# Altium integrated library Res-SMD_V2.IntLib: 2369 symbols (part 18 of 18)
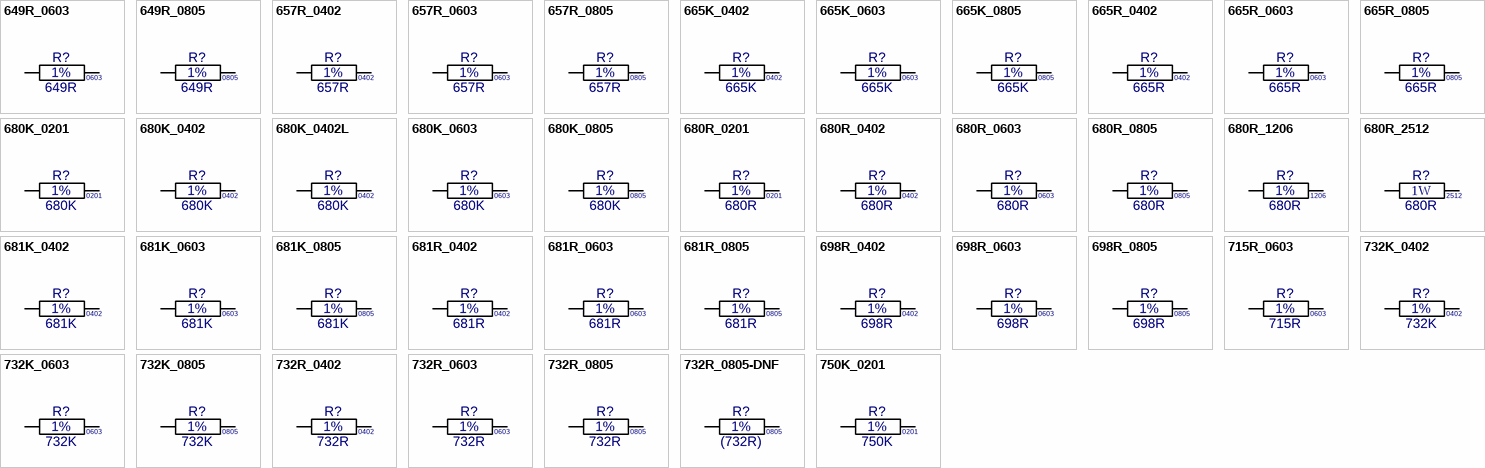
[diagram p76: symbols 649R_0603 to 750K_0201]

## 732K_0402
designator R?, comment value 732K  Tol: 1%  Text1: 0402  (hidden comment: 732K_R0402_1%)
Resistor Chip SMD; Manufacturer: Various; Part Number: 732K 0402 1%; Watt: 63mW; Package: RESC0402X40N; EDM-PN: *; Text2: *; Reutech PN: *; SAAB PN: *; DCE Part No: *
footprint RESC0402X40N (Chip Resistor, 0402, 2-Leads, Body 1.1x0.5mm, IPC Medium Density)
pins: 1, 2

## 732K_0603
designator R?, comment value 732K  Tol: 1%  Text1: 0603  (hidden comment: 732K_R0603_1%)
Resistor Chip SMD; Manufacturer: Various; Part Number: 732K 0603 1%; Watt: 100mW; EDM-PN: RES1041; Package: RESC0603X60N; Text2: *; Reutech PN: *; SAAB PN: *; DCE Part No: *
footprint RESC0603X60N (Chip Resistor, 0603, 2-Leads, Body 1.6x0.8mm, IPC Medium Density)
pins: 1, 2

## 732K_0805
designator R?, comment value 732K  Tol: 1%  Text1: 0805  (hidden comment: 732K_R0805_1%)
Resistor Chip SMD; Manufacturer: Various; Part Number: 732K 0805 1%; Watt: 125mW; Package: RESC0805X65N; EDM-PN: *; Text2: *; Reutech PN: *; SAAB PN: *; DCE Part No: *
footprint RESC0805X65N (Chip Resistor, 0805, 2-Leads, Body 2.0x1.3mm, IPC Medium Density)
pins: 1, 2

## 732R_0402
designator R?, comment value 732R  Tol: 1%  Text1: 0402  (hidden comment: 732R_R0402_1%)
Resistor Chip SMD; Manufacturer: Various; Part Number: 732R 0402 1%; Watt: 63mW; Package: RESC0402X40N; EDM-PN: *; Text2: *; Reutech PN: *; SAAB PN: *; DCE Part No: *
footprint RESC0402X40N (Chip Resistor, 0402, 2-Leads, Body 1.1x0.5mm, IPC Medium Density)
pins: 1, 2

## 732R_0603
designator R?, comment value 732R  Tol: 1%  Text1: 0603  (hidden comment: 732R_R0603_1%)
Resistor Chip SMD; Manufacturer: Various; Part Number: 732R 0603 1%; Watt: 100mW; Package: RESC0603X60N; EDM-PN: *; Text2: *; Reutech PN: *; SAAB PN: *; DCE Part No: *
footprint RESC0603X60N (Chip Resistor, 0603, 2-Leads, Body 1.6x0.8mm, IPC Medium Density)
pins: 1, 2

## 732R_0805
designator R?, comment value 732R  Tol: 1%  Text1: 0805  (hidden comment: 732R_R0805_1%)
Resistor Chip SMD; Manufacturer: Various; Part Number: 732R 0805 1%; Watt: 125mW; Package: RESC0805X65N; EDM-PN: *; Text2: *; Reutech PN: *; SAAB PN: *; DCE Part No: *
footprint RESC0805X65N (Chip Resistor, 0805, 2-Leads, Body 2.0x1.3mm, IPC Medium Density)
pins: 1, 2

## 732R_0805-DNF
designator R?, comment value (732R)  Tol: 1%  Text1: 0805  (hidden comment: 732R_R0805_1%-DNF)
Resistor Chip SMD - Do not Fit; Manufacturer: Various; Part Number: DNF - 732R 0805 1%; Watt: 125mW; Package: RESC0805X65N; EDM-PN: *; Text2: *; Reutech PN: *; SAAB PN: *; DCE Part No: *
footprint RESC0805X65N (Chip Resistor, 0805, 2-Leads, Body 2.0x1.3mm, IPC Medium Density)
pins: 1, 2

## 750K_0201
designator R?, comment value 750K  Tol: 1%  Text1: 0201  (hidden comment: 750K_R0201_1%)
Resistor Chip SMD; Manufacturer: Various; Part Number: 750K 0201 1%; Watt: 31mW; Package: RESC0201X33N; EDM-PN: *; Text2: *; Reutech PN: *; SAAB PN: *; DCE Part No: *
footprint RESC0201X33N (Chip Resistor, 0201, 2-Leads, Body 0.6x0.3mm, IPC Medium Density)
pins: 1, 2

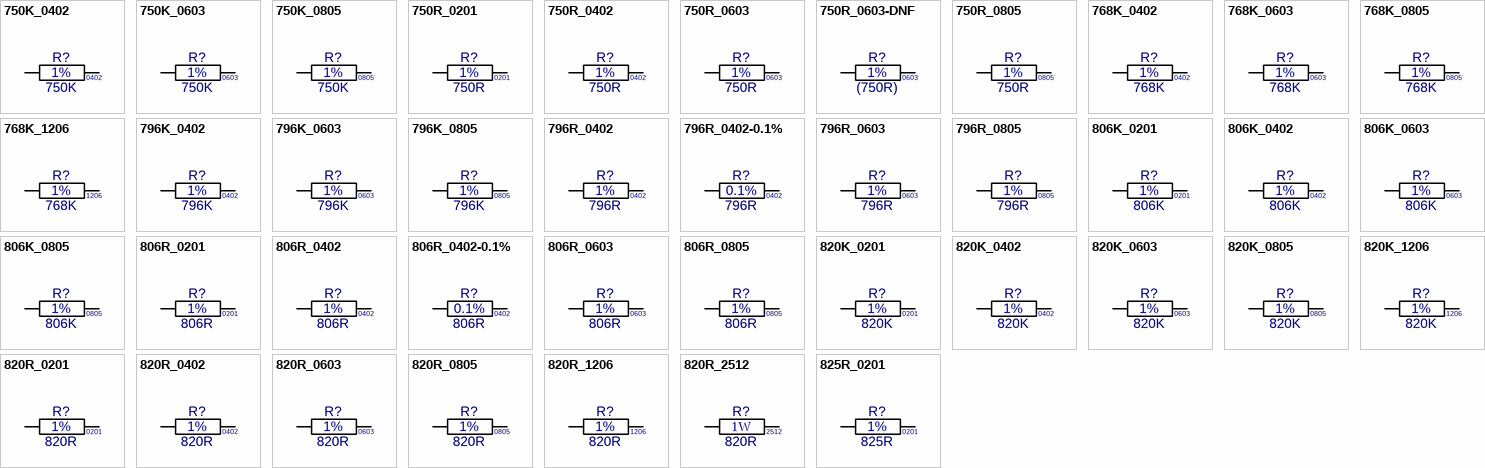
[diagram p57: symbols 750K_0402 to 825R_0201]

## 750K_0402
designator R?, comment value 750K  Tol: 1%  Text1: 0402  (hidden comment: 750K_R0402_1%)
Resistor Chip SMD; Manufacturer: Various; Part Number: 750K 0402 1%; Watt: 63mW; Package: RESC0402X40N; EDM-PN: *; Text2: *; Reutech PN: *; SAAB PN: *; DCE Part No: *
footprint RESC0402X40N (Chip Resistor, 0402, 2-Leads, Body 1.1x0.5mm, IPC Medium Density)
pins: 1, 2

## 750K_0603
designator R?, comment value 750K  Tol: 1%  Text1: 0603  (hidden comment: 750K_R0603_1%)
Resistor Chip SMD; Manufacturer: Various; Part Number: 750K 0603 1%; Watt: 100mW; EDM-PN: RES805; Package: RESC0603X60N; Text2: *; Reutech PN: *; SAAB PN: *; DCE Part No: *
footprint RESC0603X60N (Chip Resistor, 0603, 2-Leads, Body 1.6x0.8mm, IPC Medium Density)
pins: 1, 2

## 750K_0805
designator R?, comment value 750K  Tol: 1%  Text1: 0805  (hidden comment: 750K_R0805_1%)
Resistor Chip SMD; Manufacturer: Various; Part Number: 750K 0805 1%; Watt: 125mW; Package: RESC0805X65N; EDM-PN: *; Text2: *; Reutech PN: *; SAAB PN: *; DCE Part No: *
footprint RESC0805X65N (Chip Resistor, 0805, 2-Leads, Body 2.0x1.3mm, IPC Medium Density)
pins: 1, 2

## 750R_0201
designator R?, comment value 750R  Tol: 1%  Text1: 0201  (hidden comment: 750R_R0201_1%)
Resistor Chip SMD; Manufacturer: Various; Part Number: 750R 0201 1%; Watt: 31mW; Package: RESC0201X33N; EDM-PN: *; Text2: *; Reutech PN: *; SAAB PN: *; DCE Part No: *
footprint RESC0201X33N (Chip Resistor, 0201, 2-Leads, Body 0.6x0.3mm, IPC Medium Density)
pins: 1, 2

## 750R_0402
designator R?, comment value 750R  Tol: 1%  Text1: 0402  (hidden comment: 750R_R0402_1%)
Resistor Chip SMD; Manufacturer: Various; Part Number: 750R 0402 1%; Watt: 63mW; Package: RESC0402X40N; EDM-PN: *; Text2: *; Reutech PN: *; SAAB PN: *; DCE Part No: *
footprint RESC0402X40N (Chip Resistor, 0402, 2-Leads, Body 1.1x0.5mm, IPC Medium Density)
pins: 1, 2

## 750R_0603
designator R?, comment value 750R  Tol: 1%  Text1: 0603  (hidden comment: 750R_R0603_1%)
Resistor Chip SMD; Manufacturer: Various; Part Number: 750R 0603 1%; Watt: 100mW; Package: RESC0603X60N; EDM-PN: *; Text2: *; Reutech PN: 5905-93-7500; SAAB PN: *; DCE Part No: *
footprint RESC0603X60N (Chip Resistor, 0603, 2-Leads, Body 1.6x0.8mm, IPC Medium Density)
pins: 1, 2

## 750R_0603-DNF
designator R?, comment value (750R)  Tol: 1%  Text1: 0603  (hidden comment: 750R_R0603_1%-DNF)
Resistor Chip SMD - Do not Fit; Manufacturer: Various; Part Number: DNF - 750R 0603 1%; Watt: 100mW; Package: RESC0603X60N; EDM-PN: *; Text2: *; Reutech PN: 5905-93-7500; SAAB PN: *; DCE Part No: *
footprint RESC0603X60N (Chip Resistor, 0603, 2-Leads, Body 1.6x0.8mm, IPC Medium Density)
pins: 1, 2

## 750R_0805
designator R?, comment value 750R  Tol: 1%  Text1: 0805  (hidden comment: 750R_R0805_1%)
Resistor Chip SMD; Manufacturer: Various; Part Number: 750R 0805 1%; Watt: 125mW; EDM-PN: RES399; SAAB PN: 1ACF00456AEA; Package: RESC0805X65N; Text2: *; Reutech PN: *; DCE Part No: *
footprint RESC0805X65N (Chip Resistor, 0805, 2-Leads, Body 2.0x1.3mm, IPC Medium Density)
pins: 1, 2

## 768K_0402
designator R?, comment value 768K  Tol: 1%  Text1: 0402  (hidden comment: 768K_R0402_1%)
Resistor Chip SMD; Manufacturer: Various; Part Number: 768K 0402 1%; Watt: 63mW; Package: RESC0402X40N; EDM-PN: *; Text2: *; Reutech PN: *; SAAB PN: *; DCE Part No: *
footprint RESC0402X40N (Chip Resistor, 0402, 2-Leads, Body 1.1x0.5mm, IPC Medium Density)
pins: 1, 2

## 768K_0603
designator R?, comment value 768K  Tol: 1%  Text1: 0603  (hidden comment: 768K_R0603_1%)
Resistor Chip SMD; Manufacturer: Various; Part Number: 768K 0603 1%; Watt: 100mW; Package: RESC0603X60N; EDM-PN: *; Text2: *; Reutech PN: *; SAAB PN: *; DCE Part No: *
footprint RESC0603X60N (Chip Resistor, 0603, 2-Leads, Body 1.6x0.8mm, IPC Medium Density)
pins: 1, 2

## 768K_0805
designator R?, comment value 768K  Tol: 1%  Text1: 0805  (hidden comment: 768K_R0805_1%)
Resistor Chip SMD; Manufacturer: Various; Part Number: 768K 0805 1%; Watt: 125mW; Package: RESC0805X65N; EDM-PN: *; Text2: *; Reutech PN: *; SAAB PN: *; DCE Part No: *
footprint RESC0805X65N (Chip Resistor, 0805, 2-Leads, Body 2.0x1.3mm, IPC Medium Density)
pins: 1, 2

## 768K_1206
designator R?, comment value 768K  Tol: 1%  Text1: 1206  (hidden comment: 768K_R1206_1%)
Resistor Chip SMD; Manufacturer: Various; Part Number: 768K 1206 1%; Watt: 250mW; Package: RESC1206X71N; EDM-PN: *; Text2: *; Reutech PN: *; SAAB PN: *; DCE Part No: *
footprint RESC1206X71N (Chip Resistor, 1206, 2-Leads, Body 3.2x1.6mm, IPC Medium Density)
pins: 1, 2

## 796K_0402
designator R?, comment value 796K  Tol: 1%  Text1: 0402  (hidden comment: 796K_R0402_1%)
Resistor Chip SMD; Manufacturer: Various; Part Number: 796K 0402 1%; Watt: 63mW; Package: RESC0402X40N; EDM-PN: *; Text2: *; Reutech PN: *; SAAB PN: *; DCE Part No: *
footprint RESC0402X40N (Chip Resistor, 0402, 2-Leads, Body 1.1x0.5mm, IPC Medium Density)
pins: 1, 2

## 796K_0603
designator R?, comment value 796K  Tol: 1%  Text1: 0603  (hidden comment: 796K_R0603_1%)
Resistor Chip SMD; Manufacturer: Various; Part Number: 796K 0603 1%; Watt: 100mW; Package: RESC0603X60N; EDM-PN: *; Text2: *; Reutech PN: *; SAAB PN: *; DCE Part No: *
footprint RESC0603X60N (Chip Resistor, 0603, 2-Leads, Body 1.6x0.8mm, IPC Medium Density)
pins: 1, 2

## 796K_0805
designator R?, comment value 796K  Tol: 1%  Text1: 0805  (hidden comment: 796K_R0805_1%)
Resistor Chip SMD; Manufacturer: Various; Part Number: 796K 0805 1%; Watt: 125mW; Package: RESC0805X65N; EDM-PN: *; Text2: *; Reutech PN: *; SAAB PN: *; DCE Part No: *
footprint RESC0805X65N (Chip Resistor, 0805, 2-Leads, Body 2.0x1.3mm, IPC Medium Density)
pins: 1, 2

## 796R_0402
designator R?, comment value 796R  Tol: 1%  Text1: 0402  (hidden comment: 796R_R0402_1%)
Resistor Chip SMD; Manufacturer: Various; Part Number: 796R 0402 1%; Watt: 63mW; Package: RESC0402X40N; EDM-PN: *; Text2: *; Reutech PN: *; SAAB PN: *; DCE Part No: *
footprint RESC0402X40N (Chip Resistor, 0402, 2-Leads, Body 1.1x0.5mm, IPC Medium Density)
pins: 1, 2

## 796R_0402-0.1%
designator R?, comment value 796R  Tol: 0.1%  Text1: 0402  (hidden comment: 796R_R0402_0.1%)
Resistor Chip SMD; Manufacturer: Various; Part Number: 796R 0402 0.1%; Watt: 63mW; Package: RESC0402X40N; EDM-PN: *; Text2: *; Reutech PN: *; SAAB PN: *; DCE Part No: *
footprint RESC0402X40N (Chip Resistor, 0402, 2-Leads, Body 1.1x0.5mm, IPC Medium Density)
pins: 1, 2

## 796R_0603
designator R?, comment value 796R  Tol: 1%  Text1: 0603  (hidden comment: 796R_R0603_1%)
Resistor Chip SMD; Manufacturer: Various; Part Number: 796R 0603 1%; Watt: 100mW; Package: RESC0603X60N; EDM-PN: *; Text2: *; Reutech PN: *; SAAB PN: *; DCE Part No: *
footprint RESC0603X60N (Chip Resistor, 0603, 2-Leads, Body 1.6x0.8mm, IPC Medium Density)
pins: 1, 2

## 796R_0805
designator R?, comment value 796R  Tol: 1%  Text1: 0805  (hidden comment: 796R_R0805_1%)
Resistor Chip SMD; Manufacturer: Various; Part Number: 796R 0805 1%; Watt: 125mW; Package: RESC0805X65N; EDM-PN: *; Text2: *; Reutech PN: *; SAAB PN: *; DCE Part No: *
footprint RESC0805X65N (Chip Resistor, 0805, 2-Leads, Body 2.0x1.3mm, IPC Medium Density)
pins: 1, 2

## 806K_0201
designator R?, comment value 806K  Tol: 1%  Text1: 0201  (hidden comment: 806K_R0201_1%)
Resistor Chip SMD; Manufacturer: Various; Part Number: 806K 0201 1%; Watt: 31mW; Package: RESC0201X33N; EDM-PN: *; Text2: *; Reutech PN: *; SAAB PN: *; DCE Part No: *
footprint RESC0201X33N (Chip Resistor, 0201, 2-Leads, Body 0.6x0.3mm, IPC Medium Density)
pins: 1, 2

## 806K_0402
designator R?, comment value 806K  Tol: 1%  Text1: 0402  (hidden comment: 806K_R0402_1%)
Resistor Chip SMD; Manufacturer: Various; Part Number: 806K 0402 1%; Watt: 63mW; Package: RESC0402X40N; EDM-PN: *; Text2: *; Reutech PN: *; SAAB PN: *; DCE Part No: *
footprint RESC0402X40N (Chip Resistor, 0402, 2-Leads, Body 1.1x0.5mm, IPC Medium Density)
pins: 1, 2

## 806K_0603
designator R?, comment value 806K  Tol: 1%  Text1: 0603  (hidden comment: 806K_R0603_1%)
Resistor Chip SMD; Manufacturer: Various; Part Number: 806K 0603 1%; Watt: 100mW; Package: RESC0603X60N; EDM-PN: *; Text2: *; Reutech PN: *; SAAB PN: *; DCE Part No: *
footprint RESC0603X60N (Chip Resistor, 0603, 2-Leads, Body 1.6x0.8mm, IPC Medium Density)
pins: 1, 2

## 806K_0805
designator R?, comment value 806K  Tol: 1%  Text1: 0805  (hidden comment: 806K_R0805_1%)
Resistor Chip SMD; Manufacturer: Various; Part Number: 806K 0805 1%; Watt: 125mW; Package: RESC0805X65N; EDM-PN: *; Text2: *; Reutech PN: *; SAAB PN: *; DCE Part No: *
footprint RESC0805X65N (Chip Resistor, 0805, 2-Leads, Body 2.0x1.3mm, IPC Medium Density)
pins: 1, 2

## 806R_0201
designator R?, comment value 806R  Tol: 1%  Text1: 0201  (hidden comment: 806R_R0201_1%)
Resistor Chip SMD; Manufacturer: Various; Part Number: 806R 0201 1%; Watt: 31mW; Package: RESC0201X33N; EDM-PN: *; Text2: *; Reutech PN: *; SAAB PN: *; DCE Part No: *
footprint RESC0201X33N (Chip Resistor, 0201, 2-Leads, Body 0.6x0.3mm, IPC Medium Density)
pins: 1, 2

## 806R_0402
designator R?, comment value 806R  Tol: 1%  Text1: 0402  (hidden comment: 806R_R0402_1%)
Resistor Chip SMD; Manufacturer: Various; Part Number: 806R 0402 1%; Watt: 63mW; Package: RESC0402X40N; EDM-PN: *; Text2: *; Reutech PN: *; SAAB PN: *; DCE Part No: *
footprint RESC0402X40N (Chip Resistor, 0402, 2-Leads, Body 1.1x0.5mm, IPC Medium Density)
pins: 1, 2

## 806R_0402-0.1%
designator R?, comment value 806R  Tol: 0.1%  Text1: 0402  (hidden comment: 806R_R0402_0.1%)
Resistor Chip SMD; Manufacturer: Various; Part Number: 806R 0402 0.1%; Watt: 63mW; Package: RESC0402X40N; EDM-PN: *; Text2: *; Reutech PN: *; SAAB PN: *; DCE Part No: *
footprint RESC0402X40N (Chip Resistor, 0402, 2-Leads, Body 1.1x0.5mm, IPC Medium Density)
pins: 1, 2

## 806R_0603
designator R?, comment value 806R  Tol: 1%  Text1: 0603  (hidden comment: 806R_R0603_1%)
Resistor Chip SMD; Manufacturer: Various; Part Number: 806R 0603 1%; Watt: 100mW; Package: RESC0603X60N; EDM-PN: *; Text2: *; Reutech PN: *; SAAB PN: *; DCE Part No: *
footprint RESC0603X60N (Chip Resistor, 0603, 2-Leads, Body 1.6x0.8mm, IPC Medium Density)
pins: 1, 2

## 806R_0805
designator R?, comment value 806R  Tol: 1%  Text1: 0805  (hidden comment: 806R_R0805_1%)
Resistor Chip SMD; Manufacturer: Various; Part Number: 806R 0805 1%; Watt: 125mW; Package: RESC0805X65N; EDM-PN: *; Text2: *; Reutech PN: *; SAAB PN: *; DCE Part No: *
footprint RESC0805X65N (Chip Resistor, 0805, 2-Leads, Body 2.0x1.3mm, IPC Medium Density)
pins: 1, 2

## 820K_0201
designator R?, comment value 820K  Tol: 1%  Text1: 0201  (hidden comment: 820K_R0201_1%)
Resistor Chip SMD; Manufacturer: Various; Part Number: 820K 0201 1%; Watt: 31mW; Package: RESC0201X33N; EDM-PN: *; Text2: *; Reutech PN: *; SAAB PN: *; DCE Part No: *
footprint RESC0201X33N (Chip Resistor, 0201, 2-Leads, Body 0.6x0.3mm, IPC Medium Density)
pins: 1, 2

## 820K_0402
designator R?, comment value 820K  Tol: 1%  Text1: 0402  (hidden comment: 820K_R0402_1%)
Resistor Chip SMD; Manufacturer: Various; Part Number: 820K 0402 1%; Watt: 63mW; Package: RESC0402X40N; EDM-PN: *; Text2: *; Reutech PN: *; SAAB PN: *; DCE Part No: *
footprint RESC0402X40N (Chip Resistor, 0402, 2-Leads, Body 1.1x0.5mm, IPC Medium Density)
pins: 1, 2

## 820K_0603
designator R?, comment value 820K  Tol: 1%  Text1: 0603  (hidden comment: 820K_R0603_1%)
Resistor Chip SMD; Manufacturer: Various; Part Number: 820K 0603 1%; Watt: 100mW; Package: RESC0603X60N; EDM-PN: *; Text2: *; Reutech PN: *; SAAB PN: *; DCE Part No: *
footprint RESC0603X60N (Chip Resistor, 0603, 2-Leads, Body 1.6x0.8mm, IPC Medium Density)
pins: 1, 2

## 820K_0805
designator R?, comment value 820K  Tol: 1%  Text1: 0805  (hidden comment: 820K_R0805_1%)
Resistor Chip SMD; Manufacturer: Various; Part Number: 820K 0805 1%; Watt: 125mW; Package: RESC0805X65N; EDM-PN: *; Text2: *; Reutech PN: *; SAAB PN: *; DCE Part No: *
footprint RESC0805X65N (Chip Resistor, 0805, 2-Leads, Body 2.0x1.3mm, IPC Medium Density)
pins: 1, 2

## 820K_1206
designator R?, comment value 820K  Tol: 1%  Text1: 1206  (hidden comment: 820K_R1206_1%)
Resistor Chip SMD; Manufacturer: Various; Part Number: 820K 1206 1%; Watt: 250mW; Package: RESC1206X71N; EDM-PN: *; Text2: *; Reutech PN: *; SAAB PN: *; DCE Part No: *
footprint RESC1206X71N (Chip Resistor, 1206, 2-Leads, Body 3.2x1.6mm, IPC Medium Density)
pins: 1, 2

## 820R_0201
designator R?, comment value 820R  Tol: 1%  Text1: 0201  (hidden comment: 820R_R0201_1%)
Resistor Chip SMD; Manufacturer: Various; Part Number: 820R 0201 1%; Watt: 31mW; Package: RESC0201X33N; EDM-PN: *; Text2: *; Reutech PN: *; SAAB PN: *; DCE Part No: *
footprint RESC0201X33N (Chip Resistor, 0201, 2-Leads, Body 0.6x0.3mm, IPC Medium Density)
pins: 1, 2

## 820R_0402
designator R?, comment value 820R  Tol: 1%  Text1: 0402  (hidden comment: 820R_R0402_1%)
Resistor Chip SMD; Manufacturer: Various; Part Number: 820R 0402 1%; Watt: 63mW; Package: RESC0402X40N; EDM-PN: *; Text2: *; Reutech PN: *; SAAB PN: *; DCE Part No: *
footprint RESC0402X40N (Chip Resistor, 0402, 2-Leads, Body 1.1x0.5mm, IPC Medium Density)
pins: 1, 2

## 820R_0603
designator R?, comment value 820R  Tol: 1%  Text1: 0603  (hidden comment: 820R_R0603_1%)
Resistor Chip SMD; Manufacturer: Various; Part Number: 820R 0603 1%; Watt: 100mW; Package: RESC0603X60N; EDM-PN: *; Text2: *; Reutech PN: 5905-93-8200; SAAB PN: *; DCE Part No: *
footprint RESC0603X60N (Chip Resistor, 0603, 2-Leads, Body 1.6x0.8mm, IPC Medium Density)
pins: 1, 2

## 820R_0805
designator R?, comment value 820R  Tol: 1%  Text1: 0805  (hidden comment: 820R_R0805_1%)
Resistor Chip SMD; Manufacturer: Various; Part Number: 820R 0805 1%; Watt: 125mW; Package: RESC0805X65N; EDM-PN: *; Text2: *; Reutech PN: *; SAAB PN: *; DCE Part No: *
footprint RESC0805X65N (Chip Resistor, 0805, 2-Leads, Body 2.0x1.3mm, IPC Medium Density)
pins: 1, 2

## 820R_1206
designator R?, comment value 820R  Tol: 1%  Text1: 1206  (hidden comment: 820R_R1206_1%)
Resistor Chip SMD; Manufacturer: Various; Part Number: 820R 1206 1%; Watt: 250mW; Package: RESC1206X71N; EDM-PN: *; Text2: *; Reutech PN: *; SAAB PN: *; DCE Part No: *
footprint RESC1206X71N (Chip Resistor, 1206, 2-Leads, Body 3.2x1.6mm, IPC Medium Density)
pins: 1, 2

## 820R_2512
designator R?, comment value 820R  Watt: 1W  Text1: 2512  (hidden comment: 820R_R2512_1%)
Resistor Chip SMD; Manufacturer: Various; Part Number: 820R 2512 1%; Tol: 1%; Reutech PN: 5905-CR-0044; Package: RESC2512X71N; EDM-PN: *; Text2: *; SAAB PN: *; DCE Part No: *
footprint RESC2512X71N (Chip Resistor, 2512, 2-Leads, Body 6.3x3.2mm, IPC Medium Density)
pins: 1, 2

## 825R_0201
designator R?, comment value 825R  Tol: 1%  Text1: 0201  (hidden comment: 825R_R0201_1%)
Resistor Chip SMD; Manufacturer: Various; Part Number: 825R 0201 1%; Watt: 31mW; Package: RESC0201X33N; EDM-PN: *; Text2: *; Reutech PN: *; SAAB PN: *; DCE Part No: *
footprint RESC0201X33N (Chip Resistor, 0201, 2-Leads, Body 0.6x0.3mm, IPC Medium Density)
pins: 1, 2

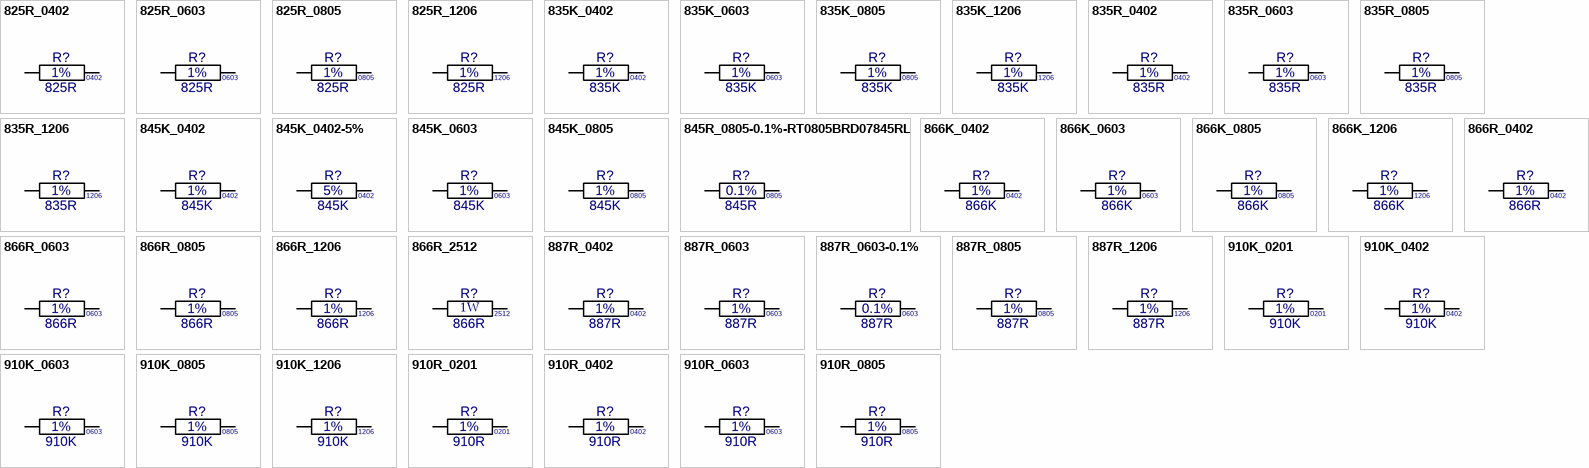
[diagram p58: symbols 825R_0402 to 910R_0805]

## 825R_0402
designator R?, comment value 825R  Tol: 1%  Text1: 0402  (hidden comment: 825R_R0402_1%)
Resistor Chip SMD; Manufacturer: Various; Part Number: 825R 0402 1%; Watt: 63mW; Package: RESC0402X40N; EDM-PN: *; Text2: *; Reutech PN: *; SAAB PN: *; DCE Part No: *
footprint RESC0402X40N (Chip Resistor, 0402, 2-Leads, Body 1.1x0.5mm, IPC Medium Density)
pins: 1, 2

## 825R_0603
designator R?, comment value 825R  Tol: 1%  Text1: 0603  (hidden comment: 825R_R0603_1%)
Resistor Chip SMD; Manufacturer: Various; Part Number: 825R 0603 1%; Watt: 100mW; Package: RESC0603X60N; EDM-PN: *; Text2: *; Reutech PN: *; SAAB PN: *; DCE Part No: *
footprint RESC0603X60N (Chip Resistor, 0603, 2-Leads, Body 1.6x0.8mm, IPC Medium Density)
pins: 1, 2

## 825R_0805
designator R?, comment value 825R  Tol: 1%  Text1: 0805  (hidden comment: 825R_R0805_1%)
Resistor Chip SMD; Manufacturer: Various; Part Number: 825R 0805 1%; Watt: 125mW; Package: RESC0805X65N; EDM-PN: *; Text2: *; Reutech PN: *; SAAB PN: *; DCE Part No: *
footprint RESC0805X65N (Chip Resistor, 0805, 2-Leads, Body 2.0x1.3mm, IPC Medium Density)
pins: 1, 2

## 825R_1206
designator R?, comment value 825R  Tol: 1%  Text1: 1206  (hidden comment: 825R_R1206_1%)
Resistor Chip SMD; Manufacturer: Various; Part Number: 825R 1206 1%; Watt: 250mW; Package: RESC1206X71N; EDM-PN: *; Text2: *; Reutech PN: *; SAAB PN: *; DCE Part No: *
footprint RESC1206X71N (Chip Resistor, 1206, 2-Leads, Body 3.2x1.6mm, IPC Medium Density)
pins: 1, 2

## 835K_0402
designator R?, comment value 835K  Tol: 1%  Text1: 0402  (hidden comment: 835K_R0402_1%)
Resistor Chip SMD; Manufacturer: Various; Part Number: 835K 0402 1%; Watt: 63mW; Package: RESC0402X40N; EDM-PN: *; Text2: *; Reutech PN: *; SAAB PN: *; DCE Part No: *
footprint RESC0402X40N (Chip Resistor, 0402, 2-Leads, Body 1.1x0.5mm, IPC Medium Density)
pins: 1, 2

## 835K_0603
designator R?, comment value 835K  Tol: 1%  Text1: 0603  (hidden comment: 835K_R0603_1%)
Resistor Chip SMD; Manufacturer: Various; Part Number: 835K 0603 1%; Watt: 100mW; Package: RESC0603X60N; EDM-PN: *; Text2: *; Reutech PN: *; SAAB PN: *; DCE Part No: *
footprint RESC0603X60N (Chip Resistor, 0603, 2-Leads, Body 1.6x0.8mm, IPC Medium Density)
pins: 1, 2

## 835K_0805
designator R?, comment value 835K  Tol: 1%  Text1: 0805  (hidden comment: 835K_R0805_1%)
Resistor Chip SMD; Manufacturer: Various; Part Number: 835K 0805 1%; Watt: 125mW; Package: RESC0805X65N; EDM-PN: *; Text2: *; Reutech PN: *; SAAB PN: *; DCE Part No: *
footprint RESC0805X65N (Chip Resistor, 0805, 2-Leads, Body 2.0x1.3mm, IPC Medium Density)
pins: 1, 2

## 835K_1206
designator R?, comment value 835K  Tol: 1%  Text1: 1206  (hidden comment: 835K_R1206_1%)
Resistor Chip SMD; Manufacturer: Various; Part Number: 835K 1206 1%; Watt: 250mW; Package: RESC1206X71N; EDM-PN: *; Text2: *; Reutech PN: *; SAAB PN: *; DCE Part No: *
footprint RESC1206X71N (Chip Resistor, 1206, 2-Leads, Body 3.2x1.6mm, IPC Medium Density)
pins: 1, 2

## 835R_0402
designator R?, comment value 835R  Tol: 1%  Text1: 0402  (hidden comment: 835R_R0402_1%)
Resistor Chip SMD; Manufacturer: Various; Part Number: 835R 0402 1%; Watt: 63mW; Package: RESC0402X40N; EDM-PN: *; Text2: *; Reutech PN: *; SAAB PN: *; DCE Part No: *
footprint RESC0402X40N (Chip Resistor, 0402, 2-Leads, Body 1.1x0.5mm, IPC Medium Density)
pins: 1, 2

## 835R_0603
designator R?, comment value 835R  Tol: 1%  Text1: 0603  (hidden comment: 835R_R0603_1%)
Resistor Chip SMD; Manufacturer: Various; Part Number: 835R 0603 1%; Watt: 100mW; Package: RESC0603X60N; EDM-PN: *; Text2: *; Reutech PN: *; SAAB PN: *; DCE Part No: *
footprint RESC0603X60N (Chip Resistor, 0603, 2-Leads, Body 1.6x0.8mm, IPC Medium Density)
pins: 1, 2

## 835R_0805
designator R?, comment value 835R  Tol: 1%  Text1: 0805  (hidden comment: 835R_R0805_1%)
Resistor Chip SMD; Manufacturer: Various; Part Number: 835R 0805 1%; Watt: 125mW; Package: RESC0805X65N; EDM-PN: *; Text2: *; Reutech PN: *; SAAB PN: *; DCE Part No: *
footprint RESC0805X65N (Chip Resistor, 0805, 2-Leads, Body 2.0x1.3mm, IPC Medium Density)
pins: 1, 2

## 835R_1206
designator R?, comment value 835R  Tol: 1%  Text1: 1206  (hidden comment: 835R_R1206_1%)
Resistor Chip SMD; Manufacturer: Various; Part Number: 835R 1206 1%; Watt: 250mW; Package: RESC1206X71N; EDM-PN: *; Text2: *; Reutech PN: *; SAAB PN: *; DCE Part No: *
footprint RESC1206X71N (Chip Resistor, 1206, 2-Leads, Body 3.2x1.6mm, IPC Medium Density)
pins: 1, 2

## 845K_0402
designator R?, comment value 845K  Tol: 1%  Text1: 0402  (hidden comment: 845K_R0402_1%)
Resistor Chip SMD; Manufacturer: Various; Part Number: 845K 0402 1%; Watt: 63mW; Package: RESC0402X40N; EDM-PN: *; Text2: *; Reutech PN: *; SAAB PN: *; DCE Part No: *
footprint RESC0402X40N (Chip Resistor, 0402, 2-Leads, Body 1.1x0.5mm, IPC Medium Density)
pins: 1, 2

## 845K_0402-5%
designator R?, comment value 845K  Tol: 5%  Text1: 0402  (hidden comment: 845K_R0402_5%)
Resistor Chip SMD; Manufacturer: Various; Part Number: 845K 0402 5%; Watt: 63mW; Package: RESC0402X40N; EDM-PN: *; Text2: *; Reutech PN: *; SAAB PN: *; DCE Part No: *
footprint RESC0402X40N (Chip Resistor, 0402, 2-Leads, Body 1.1x0.5mm, IPC Medium Density)
pins: 1, 2

## 845K_0603
designator R?, comment value 845K  Tol: 1%  Text1: 0603  (hidden comment: 845K_R0603_1%)
Resistor Chip SMD; Manufacturer: Various; Part Number: 845K 0603 1%; Watt: 100mW; Package: RESC0603X60N; EDM-PN: *; Text2: *; Reutech PN: *; SAAB PN: *; DCE Part No: *
footprint RESC0603X60N (Chip Resistor, 0603, 2-Leads, Body 1.6x0.8mm, IPC Medium Density)
pins: 1, 2

## 845K_0805
designator R?, comment value 845K  Tol: 1%  Text1: 0805  (hidden comment: 845K_R0805_1%)
Resistor Chip SMD; Manufacturer: Various; Part Number: 845K 0805 1%; Watt: 125mW; Package: RESC0805X65N; EDM-PN: *; Text2: *; Reutech PN: *; SAAB PN: *; DCE Part No: *
footprint RESC0805X65N (Chip Resistor, 0805, 2-Leads, Body 2.0x1.3mm, IPC Medium Density)
pins: 1, 2

## 845R_0805-0.1%-RT0805BRD07845RL
designator R?, comment value 845R  Tol: 0.1%  Text1: 0805  (hidden comment: RT0805BRD07845RL)
Resistor Chip SMD; Manufacturer: Yageo; Watt: 125mW; Part Number: RT0805BRD07845RL; Package: RESC0805X65N; EDM-PN: *; Text2: *; Reutech PN: *; SAAB PN: *; DCE Part No: *
footprint RESC0805X65N (Chip Resistor, 0805, 2-Leads, Body 2.0x1.3mm, IPC Medium Density)
pins: 1, 2

## 866K_0402
designator R?, comment value 866K  Tol: 1%  Text1: 0402  (hidden comment: 866K_R0402_1%)
Resistor Chip SMD; Manufacturer: Various; Part Number: 866K 0402 1%; Watt: 63mW; Package: RESC0402X40N; EDM-PN: *; Text2: *; Reutech PN: *; SAAB PN: *; DCE Part No: *
footprint RESC0402X40N (Chip Resistor, 0402, 2-Leads, Body 1.1x0.5mm, IPC Medium Density)
pins: 1, 2

## 866K_0603
designator R?, comment value 866K  Tol: 1%  Text1: 0603  (hidden comment: 866K_R0603_1%)
Resistor Chip SMD; Manufacturer: Various; Part Number: 866K 0603 1%; Watt: 100mW; Package: RESC0603X60N; EDM-PN: *; Text2: *; Reutech PN: *; SAAB PN: *; DCE Part No: *
footprint RESC0603X60N (Chip Resistor, 0603, 2-Leads, Body 1.6x0.8mm, IPC Medium Density)
pins: 1, 2

## 866K_0805
designator R?, comment value 866K  Tol: 1%  Text1: 0805  (hidden comment: 866K_R0805_1%)
Resistor Chip SMD; Manufacturer: Various; Part Number: 866K 0805 1%; Watt: 125mW; Package: RESC0805X65N; EDM-PN: *; Text2: *; Reutech PN: *; SAAB PN: *; DCE Part No: *
footprint RESC0805X65N (Chip Resistor, 0805, 2-Leads, Body 2.0x1.3mm, IPC Medium Density)
pins: 1, 2

## 866K_1206
designator R?, comment value 866K  Tol: 1%  Text1: 1206  (hidden comment: 866K_R1206_1%)
Resistor Chip SMD; Manufacturer: Various; Part Number: 866K 1206 1%; Watt: 250mW; Package: RESC1206X71N; EDM-PN: *; Text2: *; Reutech PN: *; SAAB PN: *; DCE Part No: *
footprint RESC1206X71N (Chip Resistor, 1206, 2-Leads, Body 3.2x1.6mm, IPC Medium Density)
pins: 1, 2

## 866R_0402
designator R?, comment value 866R  Tol: 1%  Text1: 0402  (hidden comment: 866R_R0402_1%)
Resistor Chip SMD; Manufacturer: Various; Part Number: 866R 0402 1%; Watt: 63mW; Package: RESC0402X40N; EDM-PN: *; Text2: *; Reutech PN: *; SAAB PN: *; DCE Part No: *
footprint RESC0402X40N (Chip Resistor, 0402, 2-Leads, Body 1.1x0.5mm, IPC Medium Density)
pins: 1, 2

## 866R_0603
designator R?, comment value 866R  Tol: 1%  Text1: 0603  (hidden comment: 866R_R0603_1%)
Resistor Chip SMD; Manufacturer: Various; Part Number: 866R 0603 1%; Watt: 100mW; Package: RESC0603X60N; EDM-PN: *; Text2: *; Reutech PN: *; SAAB PN: *; DCE Part No: *
footprint RESC0603X60N (Chip Resistor, 0603, 2-Leads, Body 1.6x0.8mm, IPC Medium Density)
pins: 1, 2

## 866R_0805
designator R?, comment value 866R  Tol: 1%  Text1: 0805  (hidden comment: 866R_R0805_1%)
Resistor Chip SMD; Manufacturer: Various; Part Number: 866R 0805 1%; Watt: 125mW; Package: RESC0805X65N; EDM-PN: *; Text2: *; Reutech PN: *; SAAB PN: *; DCE Part No: *
footprint RESC0805X65N (Chip Resistor, 0805, 2-Leads, Body 2.0x1.3mm, IPC Medium Density)
pins: 1, 2

## 866R_1206
designator R?, comment value 866R  Tol: 1%  Text1: 1206  (hidden comment: 866R_R1206_1%)
Resistor Chip SMD; Manufacturer: Various; Part Number: 866R 1206 1%; Watt: 250mW; Package: RESC1206X71N; EDM-PN: *; Text2: *; Reutech PN: *; SAAB PN: *; DCE Part No: *
footprint RESC1206X71N (Chip Resistor, 1206, 2-Leads, Body 3.2x1.6mm, IPC Medium Density)
pins: 1, 2

## 866R_2512
designator R?, comment value 866R  Watt: 1W  Text1: 2512  (hidden comment: 866R_R2512)
Resistor Chip SMD; Manufacturer: Various; Part Number: 866R 2512 1%; Tol: 1%; Package: RESC2512X71N; EDM-PN: *; Text2: *; Reutech PN: *; SAAB PN: *; DCE Part No: *
footprint RESC2512X71N (Chip Resistor, 2512, 2-Leads, Body 6.3x3.2mm, IPC Medium Density)
pins: 1, 2

## 887R_0402
designator R?, comment value 887R  Tol: 1%  Text1: 0402  (hidden comment: 887R_R0402_1%)
Resistor Chip SMD; Manufacturer: Various; Part Number: 887R 0402 1%; Watt: 63mW; Package: RESC0402X40N; EDM-PN: *; Text2: *; Reutech PN: *; SAAB PN: *; DCE Part No: *
footprint RESC0402X40N (Chip Resistor, 0402, 2-Leads, Body 1.1x0.5mm, IPC Medium Density)
pins: 1, 2

## 887R_0603
designator R?, comment value 887R  Tol: 1%  Text1: 0603  (hidden comment: 887R_R0603_1%)
Resistor Chip SMD; Manufacturer: Various; Part Number: 887R 0603 1%; Watt: 100mW; Package: RESC0603X60N; EDM-PN: *; Text2: *; Reutech PN: *; SAAB PN: *; DCE Part No: *
footprint RESC0603X60N (Chip Resistor, 0603, 2-Leads, Body 1.6x0.8mm, IPC Medium Density)
pins: 1, 2

## 887R_0603-0.1%
designator R?, comment value 887R  Tol: 0.1%  Text1: 0603  (hidden comment: 887R_R0603_0.1%)
Resistor Chip SMD; Manufacturer: Various; Part Number: 887R 0603 0.1%; Watt: 100mW; Package: RESC0603X60N; EDM-PN: *; Text2: *; Reutech PN: *; SAAB PN: *; DCE Part No: *
footprint RESC0603X60N (Chip Resistor, 0603, 2-Leads, Body 1.6x0.8mm, IPC Medium Density)
pins: 1, 2

## 887R_0805
designator R?, comment value 887R  Tol: 1%  Text1: 0805  (hidden comment: 887R_R0805_1%)
Resistor Chip SMD; Manufacturer: Various; Part Number: 887R 0805 1%; Watt: 125mW; Package: RESC0805X65N; EDM-PN: *; Text2: *; Reutech PN: *; SAAB PN: *; DCE Part No: *
footprint RESC0805X65N (Chip Resistor, 0805, 2-Leads, Body 2.0x1.3mm, IPC Medium Density)
pins: 1, 2

## 887R_1206
designator R?, comment value 887R  Tol: 1%  Text1: 1206  (hidden comment: 887R_R1206_1%)
Resistor Chip SMD; Manufacturer: Various; Part Number: 887R 1206 1%; Watt: 250mW; Package: RESC1206X71N; EDM-PN: *; Text2: *; Reutech PN: *; SAAB PN: *; DCE Part No: *
footprint RESC1206X71N (Chip Resistor, 1206, 2-Leads, Body 3.2x1.6mm, IPC Medium Density)
pins: 1, 2

## 910K_0201
designator R?, comment value 910K  Tol: 1%  Text1: 0201  (hidden comment: 910K_R0201_1%)
Resistor Chip SMD; Manufacturer: Various; Part Number: 910K 0201 1%; Watt: 31mW; Package: RESC0201X33N; EDM-PN: *; Text2: *; Reutech PN: *; SAAB PN: *; DCE Part No: *
footprint RESC0201X33N (Chip Resistor, 0201, 2-Leads, Body 0.6x0.3mm, IPC Medium Density)
pins: 1, 2

## 910K_0402
designator R?, comment value 910K  Tol: 1%  Text1: 0402  (hidden comment: 910K_R0402_1%)
Resistor Chip SMD; Manufacturer: Various; Part Number: 910K 0402 1%; Watt: 63mW; Package: RESC0402X40N; EDM-PN: *; Text2: *; Reutech PN: *; SAAB PN: *; DCE Part No: *
footprint RESC0402X40N (Chip Resistor, 0402, 2-Leads, Body 1.1x0.5mm, IPC Medium Density)
pins: 1, 2

## 910K_0603
designator R?, comment value 910K  Tol: 1%  Text1: 0603  (hidden comment: 910K_R0603_1%)
Resistor Chip SMD; Manufacturer: Various; Part Number: 910K 0603 1%; Watt: 100mW; Package: RESC0603X60N; EDM-PN: *; Text2: *; Reutech PN: *; SAAB PN: *; DCE Part No: *
footprint RESC0603X60N (Chip Resistor, 0603, 2-Leads, Body 1.6x0.8mm, IPC Medium Density)
pins: 1, 2

## 910K_0805
designator R?, comment value 910K  Tol: 1%  Text1: 0805  (hidden comment: 910K_R0805_1%)
Resistor Chip SMD; Manufacturer: Various; Part Number: 910K 0805 1%; Watt: 125mW; Package: RESC0805X65N; EDM-PN: *; Text2: *; Reutech PN: *; SAAB PN: *; DCE Part No: *
footprint RESC0805X65N (Chip Resistor, 0805, 2-Leads, Body 2.0x1.3mm, IPC Medium Density)
pins: 1, 2

## 910K_1206
designator R?, comment value 910K  Tol: 1%  Text1: 1206  (hidden comment: 910K_R1206_1%)
Resistor Chip SMD; Manufacturer: Various; Part Number: 910K 1206 1%; Watt: 250mW; Package: RESC1206X71N; EDM-PN: *; Text2: *; Reutech PN: *; SAAB PN: *; DCE Part No: *
footprint RESC1206X71N (Chip Resistor, 1206, 2-Leads, Body 3.2x1.6mm, IPC Medium Density)
pins: 1, 2

## 910R_0201
designator R?, comment value 910R  Tol: 1%  Text1: 0201  (hidden comment: 910R_R0201_1%)
Resistor Chip SMD; Manufacturer: Various; Part Number: 910R 0201 1%; Watt: 31mW; Package: RESC0201X33N; EDM-PN: *; Text2: *; Reutech PN: *; SAAB PN: *; DCE Part No: *
footprint RESC0201X33N (Chip Resistor, 0201, 2-Leads, Body 0.6x0.3mm, IPC Medium Density)
pins: 1, 2

## 910R_0402
designator R?, comment value 910R  Tol: 1%  Text1: 0402  (hidden comment: 910R_R0402_1%)
Resistor Chip SMD; Manufacturer: Various; Part Number: 910R 0402 1%; Watt: 63mW; Package: RESC0402X40N; EDM-PN: *; Text2: *; Reutech PN: *; SAAB PN: *; DCE Part No: *
footprint RESC0402X40N (Chip Resistor, 0402, 2-Leads, Body 1.1x0.5mm, IPC Medium Density)
pins: 1, 2

## 910R_0603
designator R?, comment value 910R  Tol: 1%  Text1: 0603  (hidden comment: 910R_R0603_1%)
Resistor Chip SMD; Manufacturer: Various; Part Number: 910R 0603 1%; Watt: 100mW; Package: RESC0603X60N; EDM-PN: *; Text2: *; Reutech PN: 5905-93-9100; SAAB PN: *; DCE Part No: *
footprint RESC0603X60N (Chip Resistor, 0603, 2-Leads, Body 1.6x0.8mm, IPC Medium Density)
pins: 1, 2

## 910R_0805
designator R?, comment value 910R  Tol: 1%  Text1: 0805  (hidden comment: 910R_R0805_1%)
Resistor Chip SMD; Manufacturer: Various; Part Number: 910R 0805 1%; Watt: 125mW; Package: RESC0805X65N; EDM-PN: *; Text2: *; Reutech PN: *; SAAB PN: *; DCE Part No: *
footprint RESC0805X65N (Chip Resistor, 0805, 2-Leads, Body 2.0x1.3mm, IPC Medium Density)
pins: 1, 2

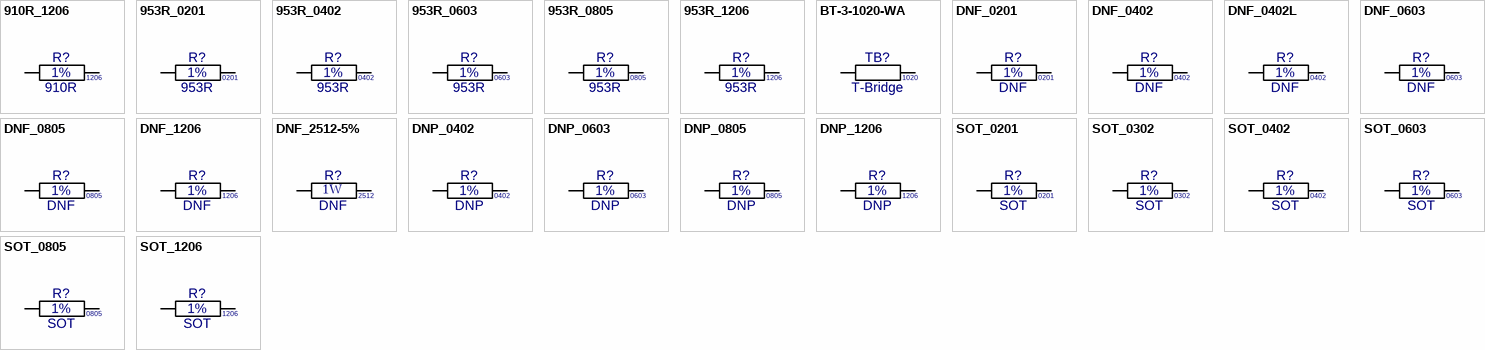
[diagram p59: symbols 910R_1206 to SOT_1206]

## 910R_1206
designator R?, comment value 910R  Tol: 1%  Text1: 1206  (hidden comment: 910R_R1206_1%)
Resistor Chip SMD; Manufacturer: Various; Part Number: 910R 1206 1%; Watt: 250mW; Package: RESC1206X71N; EDM-PN: *; Text2: *; Reutech PN: *; SAAB PN: *; DCE Part No: *
footprint RESC1206X71N (Chip Resistor, 1206, 2-Leads, Body 3.2x1.6mm, IPC Medium Density)
pins: 1, 2

## 953R_0201
designator R?, comment value 953R  Tol: 1%  Text1: 0201  (hidden comment: 953R_R0201_1%)
Resistor Chip SMD; Manufacturer: Various; Part Number: 953R 0201 1%; Watt: 31mW; Package: RESC0201X33N; EDM-PN: *; Text2: *; Reutech PN: *; SAAB PN: *; DCE Part No: *
footprint RESC0201X33N (Chip Resistor, 0201, 2-Leads, Body 0.6x0.3mm, IPC Medium Density)
pins: 1, 2

## 953R_0402
designator R?, comment value 953R  Tol: 1%  Text1: 0402  (hidden comment: 953R_R0402_1%)
Resistor Chip SMD; Manufacturer: Various; Part Number: 953R 0402 1%; Watt: 63mW; Package: RESC0402X40N; EDM-PN: *; Text2: *; Reutech PN: *; SAAB PN: *; DCE Part No: *
footprint RESC0402X40N (Chip Resistor, 0402, 2-Leads, Body 1.1x0.5mm, IPC Medium Density)
pins: 1, 2

## 953R_0603
designator R?, comment value 953R  Tol: 1%  Text1: 0603  (hidden comment: 953R_R0603_1%)
Resistor Chip SMD; Manufacturer: Various; Part Number: 953R 0603 1%; Watt: 100mW; Package: RESC0603X60N; EDM-PN: *; Text2: *; Reutech PN: *; SAAB PN: *; DCE Part No: *
footprint RESC0603X60N (Chip Resistor, 0603, 2-Leads, Body 1.6x0.8mm, IPC Medium Density)
pins: 1, 2

## 953R_0805
designator R?, comment value 953R  Tol: 1%  Text1: 0805  (hidden comment: 953R_R0805_1%)
Resistor Chip SMD; Manufacturer: Various; Part Number: 953R 0805 1%; Watt: 125mW; Package: RESC0805X65N; EDM-PN: *; Text2: *; Reutech PN: *; SAAB PN: *; DCE Part No: *
footprint RESC0805X65N (Chip Resistor, 0805, 2-Leads, Body 2.0x1.3mm, IPC Medium Density)
pins: 1, 2

## 953R_1206
designator R?, comment value 953R  Tol: 1%  Text1: 1206  (hidden comment: 953R_R1206_1%)
Resistor Chip SMD; Manufacturer: Various; Part Number: 953R 1206 1%; Watt: 250mW; Package: RESC1206X71N; EDM-PN: *; Text2: *; Reutech PN: *; SAAB PN: *; DCE Part No: *
footprint RESC1206X71N (Chip Resistor, 1206, 2-Leads, Body 3.2x1.6mm, IPC Medium Density)
pins: 1, 2

## BT-3-1020-WA
designator TB?  value T-Bridge  Text1: 1020  (hidden comment: BT-3-1020-WA)
Therma-Bridge; Manufacturer: IMS; Watt: *; Part Number: BT-3-1020-WA; Package: BT-1020-WA; EDM-PN: *; Text2: *; Reutech PN: *; Tol: *; SAAB PN: *; DCE Part No: *
footprint BT-1020-WA (BT-1020-WA 2.54x5.08mm)
pins: 1, 2

## DNF_0201
designator R?, comment value DNF  Tol: 1%  Text1: 0201  (hidden comment: DNF_R0201_1%)
Resistor Chip SMD - Do not Fit; Manufacturer: Various; Part Number: DNF 0201 1%; Watt: 31mW; Package: RESC0201X33N; EDM-PN: *; Text2: *; Reutech PN: *; SAAB PN: *; DCE Part No: *
footprint RESC0201X33N (Chip Resistor, 0201, 2-Leads, Body 0.6x0.3mm, IPC Medium Density)
pins: 1, 2

## DNF_0402
designator R?, comment value DNF  Tol: 1%  Text1: 0402  (hidden comment: DNF_R0402_1%)
Resistor Chip SMD - Do not Fit; Manufacturer: Various; Watt: 63mW; Part Number: DNF; Package: RESC0402X40N; EDM-PN: *; Text2: *; Reutech PN: *; SAAB PN: *; DCE Part No: *
footprint RESC0402X40N (Chip Resistor, 0402, 2-Leads, Body 1.1x0.5mm, IPC Medium Density)
pins: 1, 2

## DNF_0402L
designator R?, comment value DNF  Tol: 1%  Text1: 0402  (hidden comment: DNF_R0402_1%)
Resistor Chip SMD - Do not Fit; Manufacturer: Various; Watt: 63mW; Part Number: DNF; Package: RESC0402X40L; EDM-PN: *; Text2: *; Reutech PN: *; SAAB PN: *; DCE Part No: *
footprint RESC0402X40L (Chip Resistor, 0402, 2-Leads, Body 1.1x0.5mm, IPC High Density)
pins: 1, 2

## DNF_0603
designator R?, comment value DNF  Tol: 1%  Text1: 0603  (hidden comment: DNF_R0603_1%)
Resistor Chip SMD - Do not Fit; Manufacturer: Various; Watt: 100mW; Part Number: DNF; Package: RESC0603X60N; EDM-PN: *; Text2: *; Reutech PN: *; SAAB PN: *; DCE Part No: *
footprint RESC0603X60N (Chip Resistor, 0603, 2-Leads, Body 1.6x0.8mm, IPC Medium Density)
pins: 1, 2

## DNF_0805
designator R?, comment value DNF  Tol: 1%  Text1: 0805  (hidden comment: DNF_R0805_1%)
Resistor Chip SMD - Do not Fit; Manufacturer: Various; Watt: 125mW; Part Number: DNF; Package: RESC0805X65N; EDM-PN: *; Text2: *; Reutech PN: *; SAAB PN: *; DCE Part No: *
footprint RESC0805X65N (Chip Resistor, 0805, 2-Leads, Body 2.0x1.3mm, IPC Medium Density)
pins: 1, 2

## DNF_1206
designator R?, comment value DNF  Tol: 1%  Text1: 1206  (hidden comment: DNF_R1206_1%)
Resistor Chip SMD - Do not Fit; Manufacturer: Various; Watt: 250mW; Part Number: DNF; Package: RESC1206X71N; EDM-PN: *; Text2: *; Reutech PN: *; SAAB PN: *; DCE Part No: *
footprint RESC1206X71N (Chip Resistor, 1206, 2-Leads, Body 3.2x1.6mm, IPC Medium Density)
pins: 1, 2

## DNF_2512-5%
designator R?, comment value DNF  Watt: 1W  Text1: 2512  (hidden comment: DNF_R2512_5%)
Resistor Chip SMD - Do not Fit; Manufacturer: Various; Part Number: DNF 2512 5%; Tol: 5%; Package: RESC2512X71N; EDM-PN: *; Text2: *; Reutech PN: *; SAAB PN: *; DCE Part No: *
footprint RESC2512X71N (Chip Resistor, 2512, 2-Leads, Body 6.3x3.2mm, IPC Medium Density)
pins: 1, 2

## DNP_0402
designator R?, comment value DNP  Tol: 1%  Text1: 0402  (hidden comment: DNP_R0402_1%)
Resistor Chip SMD; Manufacturer: Various; Watt: 63mW; Part Number: DNP; Package: RESC0402X40N; EDM-PN: *; Text2: *; Reutech PN: *; SAAB PN: *; DCE Part No: *
footprint RESC0402X40N (Chip Resistor, 0402, 2-Leads, Body 1.1x0.5mm, IPC Medium Density)
pins: 1, 2

## DNP_0603
designator R?, comment value DNP  Tol: 1%  Text1: 0603  (hidden comment: DNP_R0603_1%)
Resistor Chip SMD; Manufacturer: Various; Watt: 100mW; Part Number: DNP; Package: RESC0603X60N; EDM-PN: *; Text2: *; Reutech PN: *; SAAB PN: *; DCE Part No: *
footprint RESC0603X60N (Chip Resistor, 0603, 2-Leads, Body 1.6x0.8mm, IPC Medium Density)
pins: 1, 2

## DNP_0805
designator R?, comment value DNP  Tol: 1%  Text1: 0805  (hidden comment: DNP_R0805_1%)
Resistor Chip SMD; Manufacturer: Various; Watt: 125mW; Part Number: DNP; Package: RESC0805X65N; EDM-PN: *; Text2: *; Reutech PN: *; SAAB PN: *; DCE Part No: *
footprint RESC0805X65N (Chip Resistor, 0805, 2-Leads, Body 2.0x1.3mm, IPC Medium Density)
pins: 1, 2

## DNP_1206
designator R?, comment value DNP  Tol: 1%  Text1: 1206  (hidden comment: DNP_R1206_1%)
Resistor Chip SMD; Manufacturer: Various; Watt: 250mW; Part Number: DNP; Package: RESC1206X71N; EDM-PN: *; Text2: *; Reutech PN: *; SAAB PN: *; DCE Part No: *
footprint RESC1206X71N (Chip Resistor, 1206, 2-Leads, Body 3.2x1.6mm, IPC Medium Density)
pins: 1, 2

## SOT_0201
designator R?, comment value SOT  Tol: 1%  Text1: 0201  (hidden comment: SOT_R0201_1%)
Resistor Chip SMD; Manufacturer: Various; Part Number: SOT 0201 1%; Watt: 31mW; Package: RESC0201X33N; EDM-PN: *; Text2: *; Reutech PN: *; SAAB PN: *; DCE Part No: *
footprint RESC0201X33N (Chip Resistor, 0201, 2-Leads, Body 0.6x0.3mm, IPC Medium Density)
pins: 1, 2

## SOT_0302
designator R?, comment value SOT  Tol: 1%  Text1: 0302  (hidden comment: SOT_R0302_1%)
Resistor Chip SMD; Manufacturer: Various; Watt: 50mW; Part Number: SOT; Package: RESC0302X38N; EDM-PN: *; Text2: *; Reutech PN: *; SAAB PN: *; DCE Part No: *
footprint RESC0302X38N (Chip Resistor, 0302, 2-Leads, Body 0.97x0.5mm, IPC Medium Density)
pins: 1, 2

## SOT_0402
designator R?, comment value SOT  Tol: 1%  Text1: 0402  (hidden comment: SOT_R0402_1%)
Resistor Chip SMD; Manufacturer: Various; Watt: 63mW; Part Number: SOT; Package: RESC0402X40N; EDM-PN: *; Text2: *; Reutech PN: *; SAAB PN: *; DCE Part No: *
footprint RESC0402X40N (Chip Resistor, 0402, 2-Leads, Body 1.1x0.5mm, IPC Medium Density)
pins: 1, 2

## SOT_0603
designator R?, comment value SOT  Tol: 1%  Text1: 0603  (hidden comment: SOT_R0603_1%)
Resistor Chip SMD; Manufacturer: Various; Watt: 100mW; Part Number: SOT; Package: RESC0603X60N; EDM-PN: *; Text2: *; Reutech PN: *; SAAB PN: *; DCE Part No: *
footprint RESC0603X60N (Chip Resistor, 0603, 2-Leads, Body 1.6x0.8mm, IPC Medium Density)
pins: 1, 2

## SOT_0805
designator R?, comment value SOT  Tol: 1%  Text1: 0805  (hidden comment: SOT_R0805_1%)
Resistor Chip SMD; Manufacturer: Various; Watt: 125mW; Part Number: SOT; Package: RESC0805X65N; EDM-PN: *; Text2: *; Reutech PN: *; SAAB PN: *; DCE Part No: *
footprint RESC0805X65N (Chip Resistor, 0805, 2-Leads, Body 2.0x1.3mm, IPC Medium Density)
pins: 1, 2

## SOT_1206
designator R?, comment value SOT  Tol: 1%  Text1: 1206  (hidden comment: SOT_R1206_1%)
Resistor Chip SMD; Manufacturer: Various; Watt: 250mW; Part Number: SOT; Package: RESC1206X71N; EDM-PN: *; Text2: *; Reutech PN: *; SAAB PN: *; DCE Part No: *
footprint RESC1206X71N (Chip Resistor, 1206, 2-Leads, Body 3.2x1.6mm, IPC Medium Density)
pins: 1, 2